# Altium footprint library CVCO55CW.PcbLib: 1 footprints
Each footprint in its own frame and in the unit in brackets; x right, y up, seen from the top. Pads: shape width x height; smd on the part's side, far side on the other; paste and mask are expansions set on the pad; w line width, h text height; cw(c..) or ccw(c..) is an arc to the next point about the centre after c.
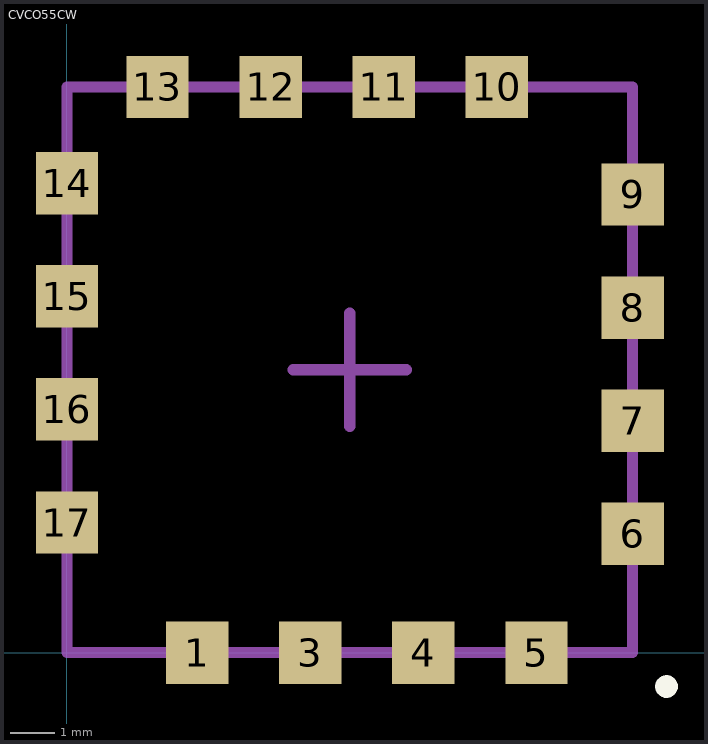
[diagram p0: the footprint, top view; thin cyan lines are the x and y axes]

## CVCO55CW [mm]
pads (16):
  rect 1.4x1.4 smd: 1(2.921,0) 3(5.461,0) 4(8.001,0) 5(10.541,0) 6(12.7,2.667) 7(12.7,5.207) 8(12.7,7.747) 9(12.7,10.287) 10(9.652,12.7) 11(7.112,12.7) 12(4.572,12.7) 13(2.032,12.7) 14(0,10.541) 15(0,8.001) 16(0,5.461) 17(0,2.921)
Top Overlay:
  circle w0.254: c13.462,-0.762 r0.127
Mechanical 15:
  lines w0.254: 5.08,6.35 7.62,6.35 ; 6.35,5.08 6.35,7.62 ; 0,0 0,12.7 12.7,12.7 12.7,0 0,0
3D body: height 3.81, standoff 0, extent 0,0 12.7,12.7